# Altium footprint library currgenTPA.PcbLib: 18 footprints (part 2 of 2)
Each footprint in its own frame and in the unit in brackets; x right, y up, seen from the top. Pads: shape width x height; smd on the part's side, far side on the other; paste and mask are expansions set on the pad; w line width, h text height; cw(c..) or ccw(c..) is an arc to the next point about the centre after c.
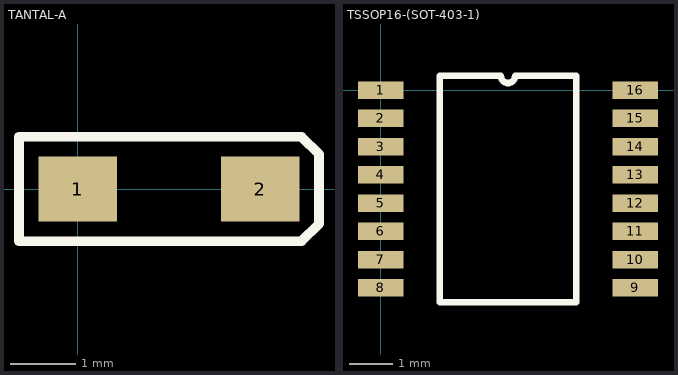
[diagram p1: the footprints below, top view; thin cyan lines are the x and y axes]

## TANTAL-A [mm]
pads (2):
  rect 1.2x1 smd: 1(0,0) 2(2.8,0)
Top Overlay:
  lines w0.15: -0.9,-0.8 -0.9,0 -0.9,0.8 3.433,0.8 3.7,0.533 3.7,-0.533 3.433,-0.8 -0.9,-0.8

## TSSOP16-(SOT-403-1) [mm]
pads (16):
  rect 1.05x0.4 smd: 1(0,0) 2(0,-0.65) 3(0,-1.3) 4(0,-1.95) 5(0,-2.6) 6(0,-3.25) 7(0,-3.9) 8(0,-4.55) 9(5.85,-4.55) 10(5.85,-3.9) 11(5.85,-3.25) 12(5.85,-2.6) 13(5.85,-1.95) 14(5.85,-1.3) 15(5.85,-0.65) 16(5.85,0)
Top Overlay:
  lines w0.15: 1.36,-4.875 1.36,0.325 2.762,0.325 ccw(c2.925,0.325) 3.087,0.325 4.49,0.325 4.49,-4.875 1.36,-4.875